# EAGLE library part UTC2000 (library Microchip)
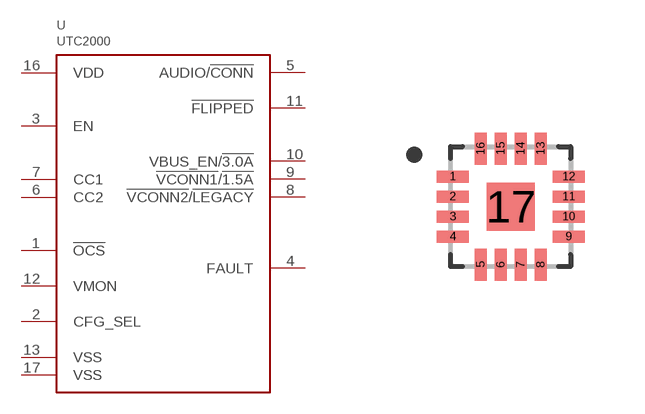
[diagram p33: symbol with the pads of QFN16; footprint QFN16]

Designator prefix U

## UTC2000  [QFN16]
1  !OCS  in
2  CFG_SEL  in
3  EN  in
4  FAULT  in
5  AUDIO/!CONN  in
6  CC2  in
7  CC1  in
8  !VCONN2!/!LEGACY  in
9  !VCONN1!/!1.5A  in
10  VBUS_EN/!3.0A  in
11  !FLIPPED  in
12  VMON  in
13  VSS  pwr
16  VDD  pwr
17  VSS  pwr

## Footprint QFN16 (pad centres in mm)
smd 0.8 x 0.3: 1 -1.45,0.75; 2 -1.45,0.25; 3 -1.45,-0.25; 4 -1.45,-0.75; 9 1.45,-0.75; 10 1.45,-0.25; 11 1.45,0.25; 12 1.45,0.75
smd 0.3 x 0.8: 5 -0.75,-1.45; 6 -0.25,-1.45; 7 0.25,-1.45; 8 0.75,-1.45; 13 0.75,1.45; 14 0.25,1.45; 15 -0.25,1.45; 16 -0.75,1.45
smd 1.2 x 1.2: 17 0,0